# EAGLE library part 204-5ST (library 204-5ST)
DIP Switches / SIP Switches SPST 5 switch sections Source: Datasheet <https://eagle.componentsearchengine.com/Datasheets/1/204-5ST.pdf>
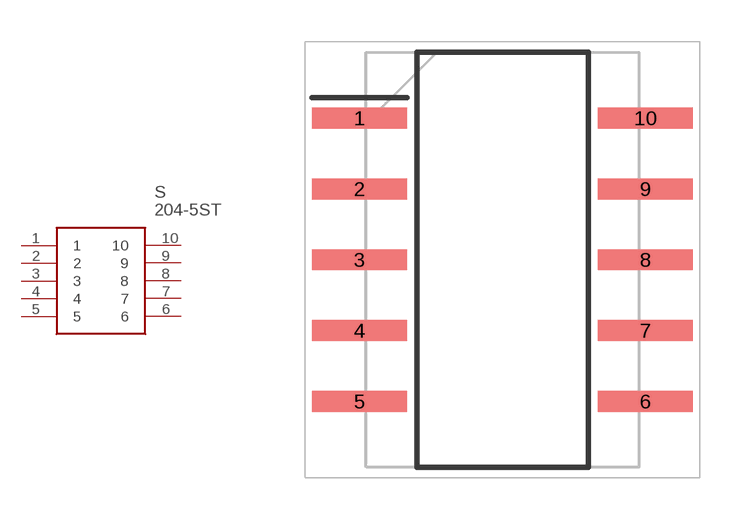
[diagram p0: symbol with the pads of SOP254P1152X760-10N; footprint SOP254P1152X760-10N]

Designator prefix S

## 204-5ST (Description: DIP Switches / SIP Switches SPST 5 switch sections; Height: 7.6mm; Manufacturer_Name: CTS; Manufacturer_Part_Number: 204-5ST)  [SOP254P1152X760-10N]
1  1  in
2  2  in
3  3  in
4  4  in
5  5  in
6  6  out
7  7  out
8  8  out
9  9  out
10  10  out

## Footprint SOP254P1152X760-10N (pad centres in mm)
SMD DIP
smd 3.4 x 0.75: 1 -5.125,5.08; 2 -5.125,2.54; 3 -5.125,0; 4 -5.125,-2.54; 5 -5.125,-5.08; 6 5.125,-5.08; 7 5.125,-2.54; 8 5.125,0; 9 5.125,2.54; 10 5.125,5.08